# Altium integrated library LM2596S-5P0.IntLib: 2 symbols
Pins are listed as number, name and electrical type; pins without a type are passive.

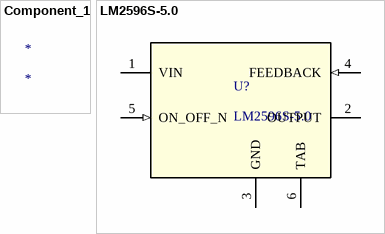
[diagram p0: symbols Component_1 to LM2596S-5.0]

## Component_1
designator *

## LM2596S-5.0
designator U?
No Description Available; Mfr_Name: Texas Instruments; PartNumber: LM2596SX-ADJ/NOPB; Alternate_PartNumber: LM2596S-ADJ/NOPB; CompType: IC; Type: DEV; RefDes: RefDes; Copyright: Copyright (C) 2022 Ultra Librarian. All rights reserved.; Manufacturer_Part_Number: LM2596S-5.0; Digi-Key_Part_Number_1: LM2596S-5.0-ND; PackageReference: KTT0005B; MountType: SMT; RoHS: Y; Manufacturer: Texas Instruments
footprint KTT0005B
footprint KTT0005B
pins: 1 VIN (power), 2 OUTPUT (power), 3 GND (power), 4 FEEDBACK (in), 5 ON_OFF_N (in), 6 TAB (power)